# EAGLE library part VNC2 (library vinculum)
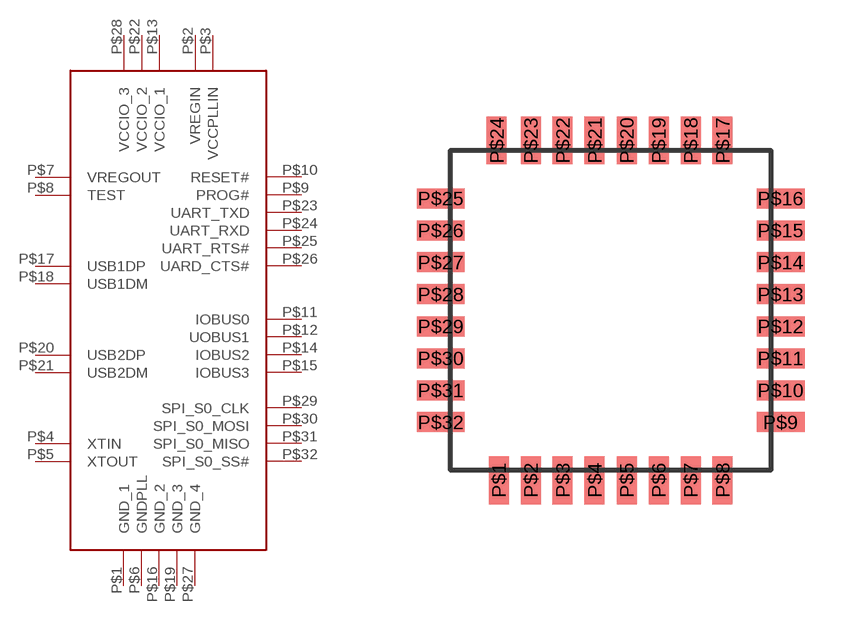
[diagram p0: symbol with the pads of QFP32; footprint QFP32]

Designator prefix -

## VNC2  [QFP32]
P$1  GND_1
P$2  VREGIN
P$3  VCCPLLIN
P$4  XTIN
P$5  XTOUT
P$6  GNDPLL
P$7  VREGOUT
P$8  TEST
P$9  PROG#
P$10  RESET#
P$11  IOBUS0
P$12  UOBUS1
P$13  VCCIO_1
P$14  IOBUS2
P$15  IOBUS3
P$16  GND_2
P$17  USB1DP
P$18  USB1DM
P$19  GND_3
P$20  USB2DP
P$21  USB2DM
P$22  VCCIO_2
P$23  UART_TXD
P$24  UART_RXD
P$25  UART_RTS#
P$26  UARD_CTS#
P$27  GND_4
P$28  VCCIO_3
P$29  SPI_S0_CLK
P$30  SPI_S0_MOSI
P$31  SPI_S0_MISO
P$32  SPI_S0_SS#

## Footprint QFP32 (pad centres in mm)
smd 0.5 x 1.2: P$1 -2.8,-4.25; P$2 -2,-4.25; P$3 -1.2,-4.25; P$4 -0.4,-4.25; P$5 0.4,-4.25; P$6 1.2,-4.25; P$7 2,-4.25; P$8 2.8,-4.25; P$17 2.8,4.25; P$18 2,4.25; P$19 1.2,4.25; P$20 0.4,4.25; P$21 -0.4,4.25; P$22 -1.2,4.25; P$23 -2,4.25; P$24 -2.85,4.25
smd 1.2 x 0.5: P$9 4.25,-2.8; P$10 4.25,-2; P$11 4.25,-1.2; P$12 4.25,-0.4; P$13 4.25,0.4; P$14 4.25,1.2; P$15 4.25,2; P$16 4.25,2.8; P$25 -4.25,2.8; P$26 -4.25,2; P$27 -4.25,1.2; P$28 -4.25,0.4; P$29 -4.25,-0.4; P$30 -4.25,-1.2; P$31 -4.25,-2; P$32 -4.25,-2.8